# Altium integrated library TSW-104-07-F-D.IntLib: 1 symbol
Pins are listed as number, name and electrical type; pins without a type are passive.

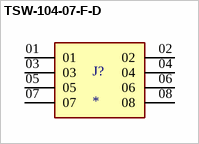
[diagram p0: symbol TSW-104-07-F-D]

## TSW-104-07-F-D
designator J?
MF: Samtec; MP: TSW-104-07-F-D; Package: None; Value: *; Price: None; Availability: Unavailable
footprint SAMTEC_TSW-104-07-F-D
pins: 01, 02, 03, 04, 05, 06, 07, 08